# EAGLE library part SN74LS02D (library SN74LS02D)
HEX INVERTERS Source: Datasheet <http://componentsearchengine.com/Datasheets/1/SN74LS02D.pdf>
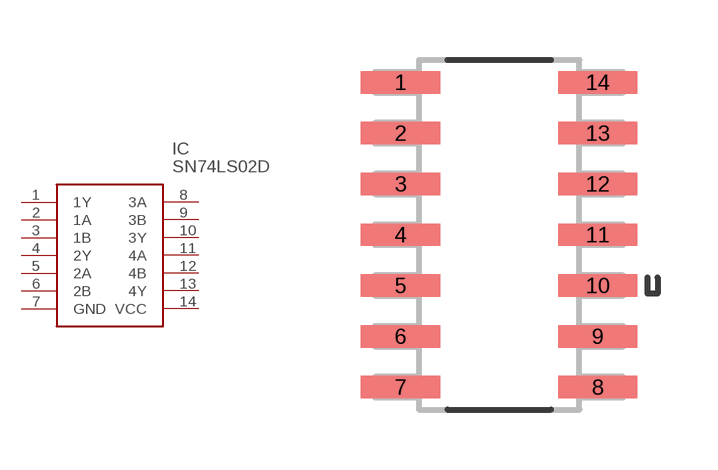
[diagram p0: symbol with the pads of SOIC127P600X175-14N; footprint SOIC127P600X175-14N]

Designator prefix IC

## SN74LS02D (Description: HEX INVERTERS; Height: mm; Manufacturer_Name: Texas Instruments; Manufacturer_Part_Number: SN74LS02D; Mouser_Part_Number: 595-SN74LS02D; Mouser_Price-Stock: https://www.mouser.com/Search/Refine.aspx?Keyword=595-SN74LS02D; RS_Part_Number: 6632357P; RS_Price-Stock: http://uk.rs-online.com/web/p/products/6632357P)  [SOIC127P600X175-14N]
1  1Y
2  1A
3  1B
4  2Y
5  2A
6  2B
7  GND
8  3A
9  3B
10  3Y
11  4A
12  4B
13  4Y
14  VCC

## Footprint SOIC127P600X175-14N (pad centres in mm)
SOIC127P600X175-14N
smd 1.981 x 0.559: 1 -2.464,3.81; 2 -2.464,2.54; 3 -2.464,1.27; 4 -2.464,0; 5 -2.464,-1.27; 6 -2.464,-2.54; 7 -2.464,-3.81; 8 2.464,-3.81; 9 2.464,-2.54; 10 2.464,-1.27; 11 2.464,0; 12 2.464,1.27; 13 2.464,2.54; 14 2.464,3.81